# Altium integrated library Linear Technology Power Management LDO Linear Regulators.IntLib: 2339 symbols (part 28 of 131)
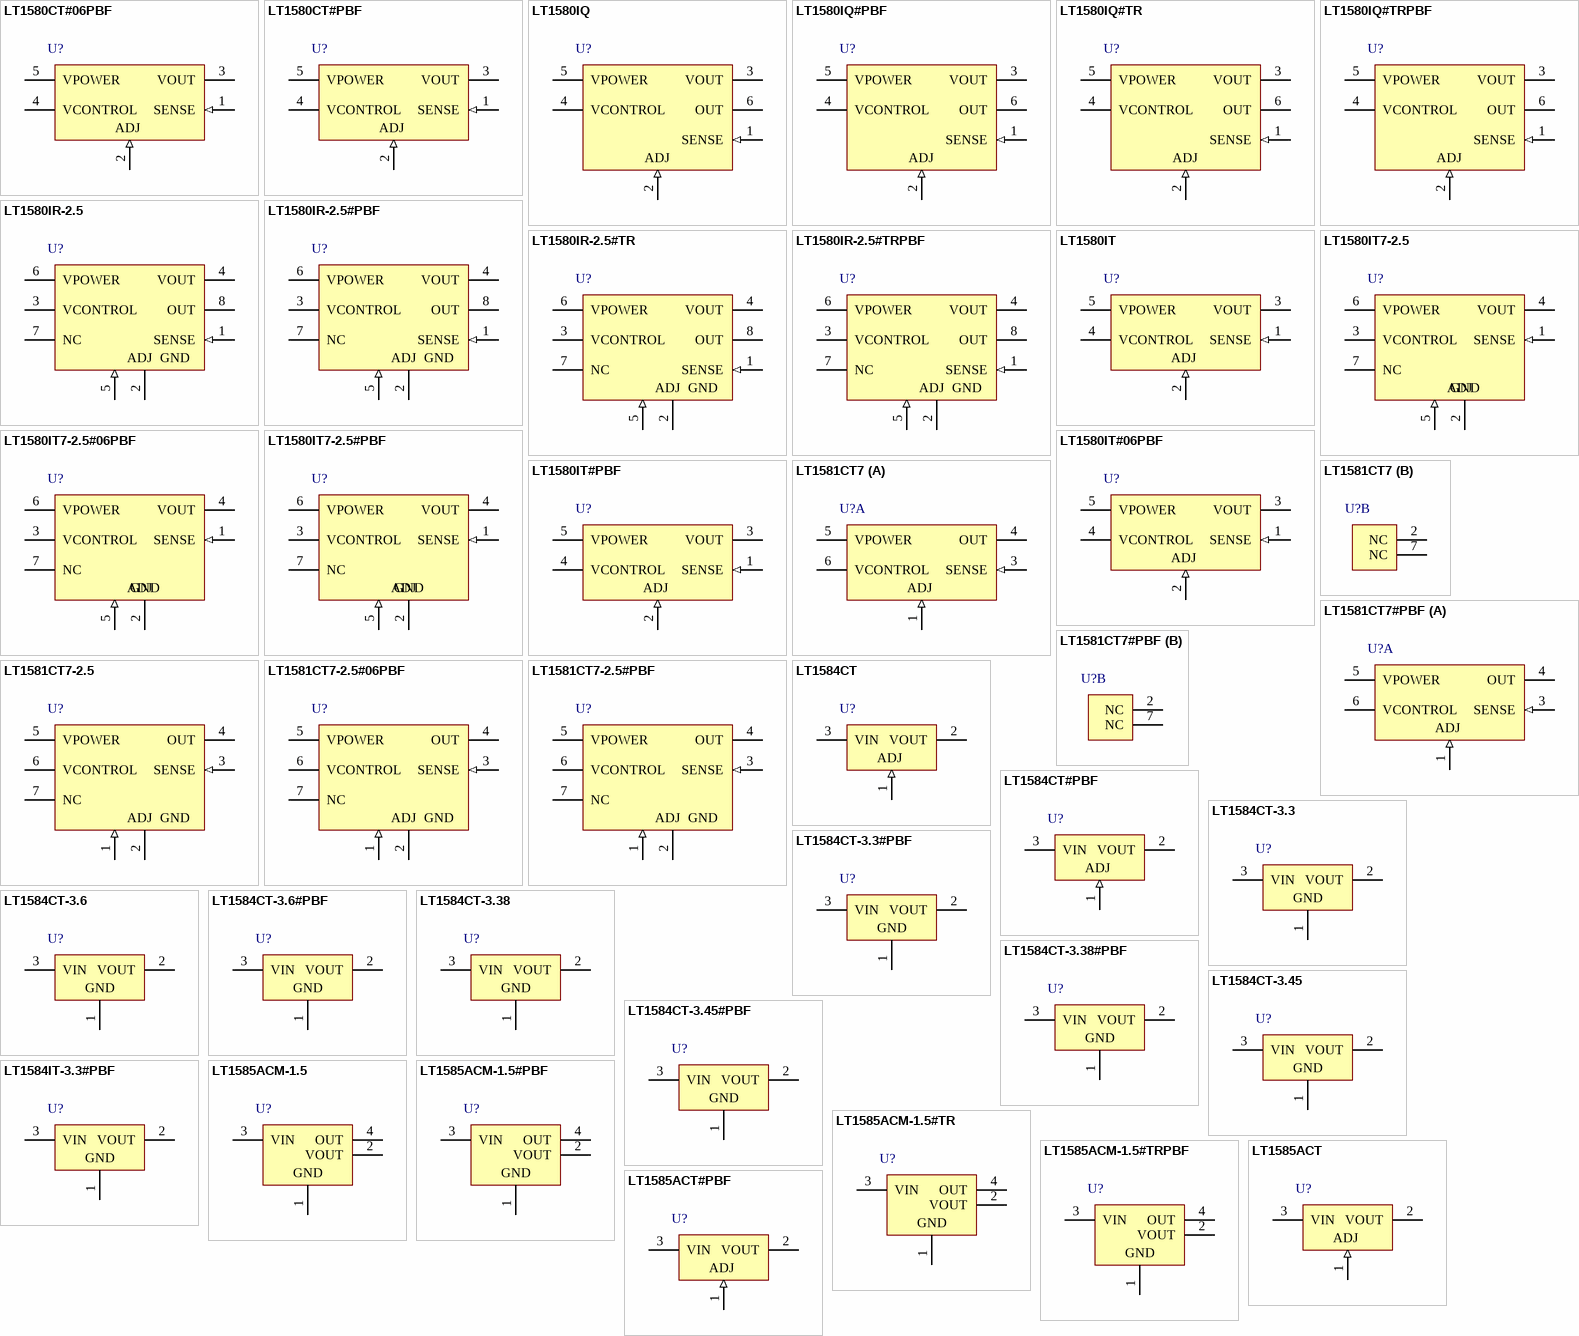
[diagram p96: symbols LT1580CT#06PBF to LT1585ACT#PBF]

## LT1584CT-3.6
designator U?
7 A Low Dropout Fast Response Positive Regulator, 2.5 to 7 V Vin, 3.6 V Vout, 3-pin FM (T-3), 0 to 150 degC; Manufacturer: Linear Technology; PartNumber: LT1584CT-3.6; Discrete Pass Element: no; Dropout Voltage(V): 1.25; Iout(mA): 7000; Isupply(mA): 8; Number of Outputs: 1; Output Voltage: 3.6 V; Vin Max(V): 7; Vin Min(V): 2.5; DatasheetVersion: Rev. A; PackageVersion: Jun-10; PackageReference: T-3; PackageDescription: 3-Pin Plastic TO-220, Body 10.2235 x 4.3815 mm, Pitch 2.54 mm; Supplier 1: Digi-Key; Supplier Part Number 1: LT1584CT-3.6-ND; RoHS: FALSE; Mounting Technology: Through Hole; ComponentLink1Description: Manufacturer URL; ComponentLink1URL: http://www.linear.com/; ComponentLink2Description: Datasheet; ComponentLink2URL: http://cds.linear.com/docs/en/datasheet/158457a.pdf; ComponentLink3Description: Package Specification; ComponentLink3URL: http://cds.linear.com/docs/en/packaging/TO-220_3_05-08-1420.pdf
footprint LT-T-3 (T, 3-Leads, Body 10.55x4.6mm, Pitch 2.54mm)
pins: 1 GND (power), 2 VOUT (power), 3 VIN (power)

## LT1584CT-3.6#PBF
designator U?
7 A Low Dropout Fast Response Positive Regulator, 2.5 to 7 V Vin, 3.6 V Vout, 3-pin FM (T-3), 0 to 150 degC, Pb-Free; Manufacturer: Linear Technology; PartNumber: LT1584CT-3.6#PBF; Discrete Pass Element: no; Dropout Voltage(V): 1.25; Iout(mA): 7000; Isupply(mA): 8; Number of Outputs: 1; Output Voltage: 3.6 V; Vin Max(V): 7; Vin Min(V): 2.5; DatasheetVersion: Rev. A; PackageVersion: Jun-10; PackageReference: T-3; PackageDescription: 3-Pin Plastic TO-220, Body 10.2235 x 4.3815 mm, Pitch 2.54 mm; Supplier 1: Digi-Key; Supplier Part Number 1: LT1584CT-3.6#PBF-ND; RoHS: TRUE; Mounting Technology: Through Hole; ComponentLink1Description: Manufacturer URL; ComponentLink1URL: http://www.linear.com/; ComponentLink2Description: Datasheet; ComponentLink2URL: http://cds.linear.com/docs/en/datasheet/158457a.pdf; ComponentLink3Description: Package Specification; ComponentLink3URL: http://cds.linear.com/docs/en/packaging/TO-220_3_05-08-1420.pdf
footprint LT-T-3 (T, 3-Leads, Body 10.55x4.6mm, Pitch 2.54mm)
pins: 1 GND (power), 2 VOUT (power), 3 VIN (power)

## LT1584CT-3.38
designator U?
7 A Low Dropout Fast Response Positive Regulator, 2.5 to 7 V Vin, 3.38 V Vout, 3-pin FM (T-3), 0 to 150 degC; Manufacturer: Linear Technology; PartNumber: LT1584CT-3.38; Discrete Pass Element: no; Dropout Voltage(V): 1.25; Iout(mA): 7000; Isupply(mA): 8; Number of Outputs: 1; Output Voltage: 3.38 V; Vin Max(V): 7; Vin Min(V): 2.5; DatasheetVersion: Rev. A; PackageVersion: Jun-10; PackageReference: T-3; PackageDescription: 3-Pin Plastic TO-220, Body 10.2235 x 4.3815 mm, Pitch 2.54 mm; Supplier 1: Digi-Key; Supplier Part Number 1: LT1584CT-3.38-ND; RoHS: FALSE; Mounting Technology: Through Hole; ComponentLink1Description: Manufacturer URL; ComponentLink1URL: http://www.linear.com/; ComponentLink2Description: Datasheet; ComponentLink2URL: http://cds.linear.com/docs/en/datasheet/158457a.pdf; ComponentLink3Description: Package Specification; ComponentLink3URL: http://cds.linear.com/docs/en/packaging/TO-220_3_05-08-1420.pdf
footprint LT-T-3 (T, 3-Leads, Body 10.55x4.6mm, Pitch 2.54mm)
pins: 1 GND (power), 2 VOUT (power), 3 VIN (power)

## LT1584CT-3.38#PBF
designator U?
7 A Low Dropout Fast Response Positive Regulator, 2.5 to 7 V Vin, 3.38 V Vout, 3-pin FM (T-3), 0 to 150 degC, Pb-Free; Manufacturer: Linear Technology; PartNumber: LT1584CT-3.38#PBF; Discrete Pass Element: no; Dropout Voltage(V): 1.25; Iout(mA): 7000; Isupply(mA): 8; Number of Outputs: 1; Output Voltage: 3.38 V; Vin Max(V): 7; Vin Min(V): 2.5; DatasheetVersion: Rev. A; PackageVersion: Jun-10; PackageReference: T-3; PackageDescription: 3-Pin Plastic TO-220, Body 10.2235 x 4.3815 mm, Pitch 2.54 mm; Supplier 1: Digi-Key; Supplier Part Number 1: LT1584CT-3.38#PBF-ND; RoHS: TRUE; Mounting Technology: Through Hole; ComponentLink1Description: Manufacturer URL; ComponentLink1URL: http://www.linear.com/; ComponentLink2Description: Datasheet; ComponentLink2URL: http://cds.linear.com/docs/en/datasheet/158457a.pdf; ComponentLink3Description: Package Specification; ComponentLink3URL: http://cds.linear.com/docs/en/packaging/TO-220_3_05-08-1420.pdf
footprint LT-T-3 (T, 3-Leads, Body 10.55x4.6mm, Pitch 2.54mm)
pins: 1 GND (power), 2 VOUT (power), 3 VIN (power)

## LT1584CT-3.45
designator U?
7 A Low Dropout Fast Response Positive Regulator, 2.5 to 7 V Vin, 3.45 V Vout, 3-pin FM (T-3), 0 to 150 degC; Manufacturer: Linear Technology; PartNumber: LT1584CT-3.45; Discrete Pass Element: no; Dropout Voltage(V): 1.25; Iout(mA): 7000; Isupply(mA): 8; Number of Outputs: 1; Output Voltage: 3.45 V; Vin Max(V): 7; Vin Min(V): 2.5; DatasheetVersion: Rev. A; PackageVersion: Jun-10; PackageReference: T-3; PackageDescription: 3-Pin Plastic TO-220, Body 10.2235 x 4.3815 mm, Pitch 2.54 mm; Supplier 1: Digi-Key; Supplier Part Number 1: LT1584CT-3.45-ND; RoHS: FALSE; Mounting Technology: Through Hole; ComponentLink1Description: Manufacturer URL; ComponentLink1URL: http://www.linear.com/; ComponentLink2Description: Datasheet; ComponentLink2URL: http://cds.linear.com/docs/en/datasheet/158457a.pdf; ComponentLink3Description: Package Specification; ComponentLink3URL: http://cds.linear.com/docs/en/packaging/TO-220_3_05-08-1420.pdf
footprint LT-T-3 (T, 3-Leads, Body 10.55x4.6mm, Pitch 2.54mm)
pins: 1 GND (power), 2 VOUT (power), 3 VIN (power)

## LT1584CT-3.45#PBF
designator U?
7 A Low Dropout Fast Response Positive Regulator, 2.5 to 7 V Vin, 3.45 V Vout, 3-pin FM (T-3), 0 to 150 degC, Pb-Free; Manufacturer: Linear Technology; PartNumber: LT1584CT-3.45#PBF; Discrete Pass Element: no; Dropout Voltage(V): 1.25; Iout(mA): 7000; Isupply(mA): 8; Number of Outputs: 1; Output Voltage: 3.45 V; Vin Max(V): 7; Vin Min(V): 2.5; DatasheetVersion: Rev. A; PackageVersion: Jun-10; PackageReference: T-3; PackageDescription: 3-Pin Plastic TO-220, Body 10.2235 x 4.3815 mm, Pitch 2.54 mm; Supplier 1: Digi-Key; Supplier Part Number 1: LT1584CT-3.45#PBF-ND; RoHS: TRUE; Mounting Technology: Through Hole; ComponentLink1Description: Manufacturer URL; ComponentLink1URL: http://www.linear.com/; ComponentLink2Description: Datasheet; ComponentLink2URL: http://cds.linear.com/docs/en/datasheet/158457a.pdf; ComponentLink3Description: Package Specification; ComponentLink3URL: http://cds.linear.com/docs/en/packaging/TO-220_3_05-08-1420.pdf
footprint LT-T-3 (T, 3-Leads, Body 10.55x4.6mm, Pitch 2.54mm)
pins: 1 GND (power), 2 VOUT (power), 3 VIN (power)

## LT1584IT-3.3#PBF
designator U?
7 A Low Dropout Fast Response Positive Regulator, 2.5 to 7 V Vin, 3.3 V Vout, 3-pin FM (T-3), -40 to 150 degC, Pb-Free; Manufacturer: Linear Technology; PartNumber: LT1584IT-3.3#PBF; Discrete Pass Element: no; Dropout Voltage(V): 1.25; Iout(mA): 7000; Isupply(mA): 8; Number of Outputs: 1; Output Voltage: 3.3 V; Vin Max(V): 7; Vin Min(V): 2.5; DatasheetVersion: Rev. A; PackageVersion: Jun-10; PackageReference: T-3; PackageDescription: 3-Pin Plastic TO-220, Body 10.2235 x 4.3815 mm, Pitch 2.54 mm; Supplier 1: Digi-Key; Supplier Part Number 1: LT1584IT-3.3#PBF-ND; Supplier 2: Newark; Supplier Part Number 2: 51P4627; RoHS: TRUE; Mounting Technology: Through Hole; ComponentLink1Description: Manufacturer URL; ComponentLink1URL: http://www.linear.com/; ComponentLink2Description: Datasheet; ComponentLink2URL: http://cds.linear.com/docs/en/datasheet/158457a.pdf; ComponentLink3Description: Package Specification; ComponentLink3URL: http://cds.linear.com/docs/en/packaging/TO-220_3_05-08-1420.pdf
footprint LT-T-3 (T, 3-Leads, Body 10.55x4.6mm, Pitch 2.54mm)
pins: 1 GND (power), 2 VOUT (power), 3 VIN (power)

## LT1585ACM-1.5
designator U?
5 A Low Dropout Fast Response Positive Regulator, 2.5 to 7 V Vin, 1.5 V Vout, 3-pin DPAK (M-3), 0 to 150 degC; Manufacturer: Linear Technology; PartNumber: LT1585ACM-1.5; Discrete Pass Element: no; Dropout Voltage(V): 1.2; Iout(mA): 5000; Isupply(mA): 8; Number of Outputs: 1; Output Voltage: 1.5 V; Vin Max(V): 7; Vin Min(V): 2.5; DatasheetVersion: Rev. A; PackageVersion: Rev. F, 05/2012; PackageReference: M-3; PackageDescription: 3-Pin Plastic DD Pak, Body 10.2235 x 8.89 mm, Pitch 2.54 mm; Supplier 1: Digi-Key; Supplier Part Number 1: LT1585ACM-1.5-ND; RoHS: FALSE; Mounting Technology: Surface Mount; ComponentLink1Description: Manufacturer URL; ComponentLink1URL: http://www.linear.com/; ComponentLink2Description: Datasheet; ComponentLink2URL: http://cds.linear.com/docs/en/datasheet/158515fa.pdf; ComponentLink3Description: Package Specification; ComponentLink3URL: http://cds.linear.com/docs/en/packaging/05081460_F_M.pdf
footprint LT-M-3_N (DPAK, 3-Leads, Body 10.55x9.4mm, Pitch 2.54mm, IPC Medium Density)
footprint LT-M-3_L (DPAK, 3-Leads, Body 10.55x9.4mm, Pitch 2.54mm, IPC High Density)
footprint LT-M-3_M (DPAK, 3-Leads, Body 10.55x9.4mm, Pitch 2.54mm, IPC Low Density)
pins: 1 GND (power), 2 VOUT (power), 3 VIN (power), 4 OUT (power)

## LT1585ACM-1.5#PBF
designator U?
5 A Low Dropout Fast Response Positive Regulator, 2.5 to 7 V Vin, 1.5 V Vout, 3-pin DPAK (M-3), 0 to 150 degC, Pb-Free; Manufacturer: Linear Technology; PartNumber: LT1585ACM-1.5#PBF; Discrete Pass Element: no; Dropout Voltage(V): 1.2; Iout(mA): 5000; Isupply(mA): 8; Number of Outputs: 1; Output Voltage: 1.5 V; Vin Max(V): 7; Vin Min(V): 2.5; DatasheetVersion: Rev. A; PackageVersion: Rev. F, 05/2012; PackageReference: M-3; PackageDescription: 3-Pin Plastic DD Pak, Body 10.2235 x 8.89 mm, Pitch 2.54 mm; Supplier 1: Digi-Key; Supplier Part Number 1: LT1585ACM-1.5#PBF-ND; Supplier 2: Newark; Supplier Part Number 2: 57M5100; RoHS: TRUE; Mounting Technology: Surface Mount; ComponentLink1Description: Manufacturer URL; ComponentLink1URL: http://www.linear.com/; ComponentLink2Description: Datasheet; ComponentLink2URL: http://cds.linear.com/docs/en/datasheet/158515fa.pdf; ComponentLink3Description: Package Specification; ComponentLink3URL: http://cds.linear.com/docs/en/packaging/05081460_F_M.pdf
footprint LT-M-3_N (DPAK, 3-Leads, Body 10.55x9.4mm, Pitch 2.54mm, IPC Medium Density)
footprint LT-M-3_L (DPAK, 3-Leads, Body 10.55x9.4mm, Pitch 2.54mm, IPC High Density)
footprint LT-M-3_M (DPAK, 3-Leads, Body 10.55x9.4mm, Pitch 2.54mm, IPC Low Density)
pins: 1 GND (power), 2 VOUT (power), 3 VIN (power), 4 OUT (power)

## LT1585ACM-1.5#TR
designator U?
5 A Low Dropout Fast Response Positive Regulator, 2.5 to 7 V Vin, 1.5 V Vout, 3-pin DPAK (M-3), 0 to 150 degC, Tape and Reel; Manufacturer: Linear Technology; PartNumber: LT1585ACM-1.5#TR; Discrete Pass Element: no; Dropout Voltage(V): 1.2; Iout(mA): 5000; Isupply(mA): 8; Number of Outputs: 1; Output Voltage: 1.5 V; Vin Max(V): 7; Vin Min(V): 2.5; DatasheetVersion: Rev. A; PackageVersion: Rev. F, 05/2012; PackageReference: M-3; PackageDescription: 3-Pin Plastic DD Pak, Body 10.2235 x 8.89 mm, Pitch 2.54 mm; Supplier 1: Digi-Key; Supplier Part Number 1: LT1585ACM-1.5#TR-ND; Packing: Tape and Reel; RoHS: FALSE; Mounting Technology: Surface Mount; ComponentLink1Description: Manufacturer URL; ComponentLink1URL: http://www.linear.com/; ComponentLink2Description: Datasheet; ComponentLink2URL: http://cds.linear.com/docs/en/datasheet/158515fa.pdf; ComponentLink3Description: Package Specification; ComponentLink3URL: http://cds.linear.com/docs/en/packaging/05081460_F_M.pdf
footprint LT-M-3_N (DPAK, 3-Leads, Body 10.55x9.4mm, Pitch 2.54mm, IPC Medium Density)
footprint LT-M-3_L (DPAK, 3-Leads, Body 10.55x9.4mm, Pitch 2.54mm, IPC High Density)
footprint LT-M-3_M (DPAK, 3-Leads, Body 10.55x9.4mm, Pitch 2.54mm, IPC Low Density)
pins: 1 GND (power), 2 VOUT (power), 3 VIN (power), 4 OUT (power)

## LT1585ACM-1.5#TRPBF
designator U?
5 A Low Dropout Fast Response Positive Regulator, 2.5 to 7 V Vin, 1.5 V Vout, 3-pin DPAK (M-3), 0 to 150 degC, Pb-Free, Tape and Reel; Manufacturer: Linear Technology; PartNumber: LT1585ACM-1.5#TRPBF; Discrete Pass Element: no; Dropout Voltage(V): 1.2; Iout(mA): 5000; Isupply(mA): 8; Number of Outputs: 1; Output Voltage: 1.5 V; Vin Max(V): 7; Vin Min(V): 2.5; DatasheetVersion: Rev. A; PackageVersion: Rev. F, 05/2012; PackageReference: M-3; PackageDescription: 3-Pin Plastic DD Pak, Body 10.2235 x 8.89 mm, Pitch 2.54 mm; Supplier 1: Digi-Key; Supplier Part Number 1: LT1585ACM-1.5#TRPBF-ND; Supplier 2: Newark; Supplier Part Number 2: 57M5102; Packing: Tape and Reel; RoHS: TRUE; Mounting Technology: Surface Mount; ComponentLink1Description: Manufacturer URL; ComponentLink1URL: http://www.linear.com/; ComponentLink2Description: Datasheet; ComponentLink2URL: http://cds.linear.com/docs/en/datasheet/158515fa.pdf; ComponentLink3Description: Package Specification; ComponentLink3URL: http://cds.linear.com/docs/en/packaging/05081460_F_M.pdf
footprint LT-M-3_N (DPAK, 3-Leads, Body 10.55x9.4mm, Pitch 2.54mm, IPC Medium Density)
footprint LT-M-3_L (DPAK, 3-Leads, Body 10.55x9.4mm, Pitch 2.54mm, IPC High Density)
footprint LT-M-3_M (DPAK, 3-Leads, Body 10.55x9.4mm, Pitch 2.54mm, IPC Low Density)
pins: 1 GND (power), 2 VOUT (power), 3 VIN (power), 4 OUT (power)

## LT1585ACT
designator U?
5 A Low Dropout Fast Response Positive Regulator, 2.45 to 7 V Vin, Adjustable Vout, 3-pin FM (T-3), 0 to 150 degC; Manufacturer: Linear Technology; PartNumber: LT1585ACT; Discrete Pass Element: no; Dropout Voltage(V): 1.2; Iout(mA): 5000; Isupply(mA): 8; Number of Outputs: 1; Output Voltage: Adj; Vin Max(V): 7; Vin Min(V): 2.45; Vout Max(V): 5.5; Vout Min(V): 1.25; DatasheetVersion: Rev. A; PackageVersion: Jun-10; PackageReference: T-3; PackageDescription: 3-Pin Plastic TO-220, Body 10.2235 x 4.3815 mm, Pitch 2.54 mm; Supplier 1: Digi-Key; Supplier Part Number 1: LT1585ACT-ND; RoHS: FALSE; Mounting Technology: Through Hole; ComponentLink1Description: Manufacturer URL; ComponentLink1URL: http://www.linear.com/; ComponentLink2Description: Datasheet; ComponentLink2URL: http://cds.linear.com/docs/en/datasheet/1585afa.pdf; ComponentLink3Description: Package Specification; ComponentLink3URL: http://cds.linear.com/docs/en/packaging/TO-220_3_05-08-1420.pdf
footprint LT-T-3 (T, 3-Leads, Body 10.55x4.6mm, Pitch 2.54mm)
pins: 1 ADJ (in), 2 VOUT (power), 3 VIN (power)

## LT1585ACT#PBF
designator U?
5 A Low Dropout Fast Response Positive Regulator, 2.45 to 7 V Vin, Adjustable Vout, 3-pin FM (T-3), 0 to 150 degC, Pb-Free; Manufacturer: Linear Technology; PartNumber: LT1585ACT#PBF; Discrete Pass Element: no; Dropout Voltage(V): 1.2; Iout(mA): 5000; Isupply(mA): 8; Number of Outputs: 1; Output Voltage: Adj; Vin Max(V): 7; Vin Min(V): 2.45; Vout Max(V): 5.5; Vout Min(V): 1.25; DatasheetVersion: Rev. A; PackageVersion: Jun-10; PackageReference: T-3; PackageDescription: 3-Pin Plastic TO-220, Body 10.2235 x 4.3815 mm, Pitch 2.54 mm; Supplier 1: Digi-Key; Supplier Part Number 1: LT1585ACT#PBF-ND; Supplier 2: Newark; Supplier Part Number 2: 57M5108; RoHS: TRUE; Mounting Technology: Through Hole; ComponentLink1Description: Manufacturer URL; ComponentLink1URL: http://www.linear.com/; ComponentLink2Description: Datasheet; ComponentLink2URL: http://cds.linear.com/docs/en/datasheet/1585afa.pdf; ComponentLink3Description: Package Specification; ComponentLink3URL: http://cds.linear.com/docs/en/packaging/TO-220_3_05-08-1420.pdf
footprint LT-T-3 (T, 3-Leads, Body 10.55x4.6mm, Pitch 2.54mm)
pins: 1 ADJ (in), 2 VOUT (power), 3 VIN (power)

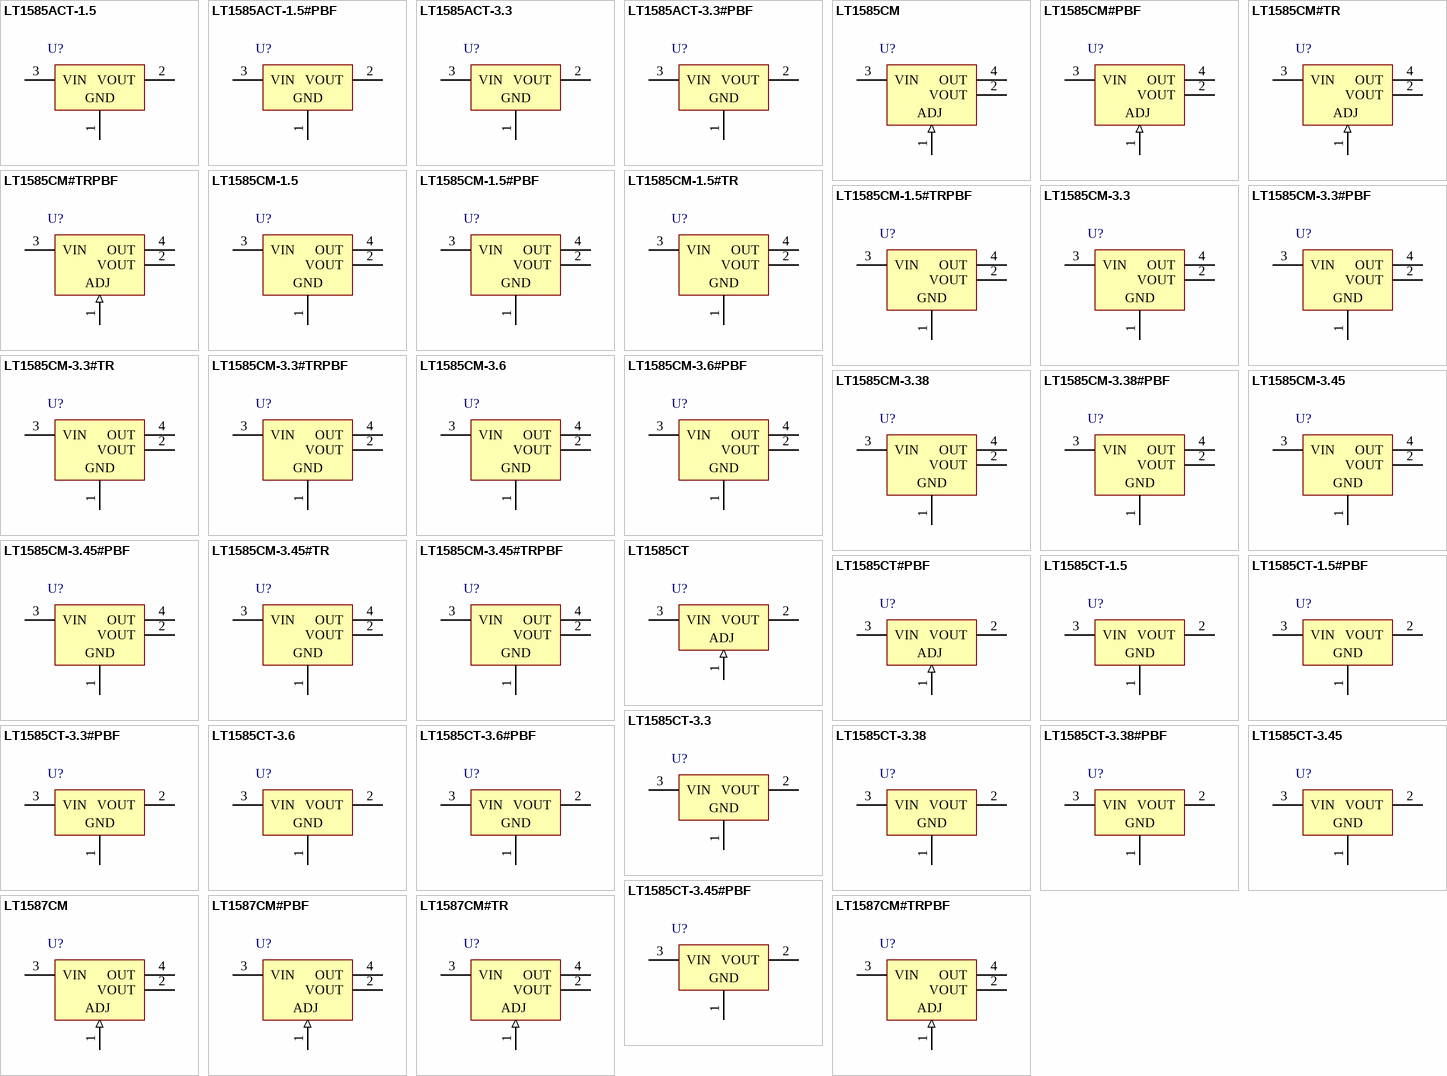
[diagram p19: symbols LT1585ACT-1.5 to LT1587CM#TRPBF]

## LT1585ACT-1.5
designator U?
5 A Low Dropout Fast Response Positive Regulator, 2.5 to 7 V Vin, 1.5 V Vout, 3-pin FM (T-3), 0 to 150 degC; Manufacturer: Linear Technology; PartNumber: LT1585ACT-1.5; Discrete Pass Element: no; Dropout Voltage(V): 1.2; Iout(mA): 5000; Isupply(mA): 8; Number of Outputs: 1; Output Voltage: 1.5 V; Vin Max(V): 7; Vin Min(V): 2.5; DatasheetVersion: Rev. A; PackageVersion: Jun-10; PackageReference: T-3; PackageDescription: 3-Pin Plastic TO-220, Body 10.2235 x 4.3815 mm, Pitch 2.54 mm; Supplier 1: Digi-Key; Supplier Part Number 1: LT1585ACT-1.5-ND; Supplier 2: Newark; Supplier Part Number 2: 57M5104; RoHS: FALSE; Mounting Technology: Through Hole; ComponentLink1Description: Manufacturer URL; ComponentLink1URL: http://www.linear.com/; ComponentLink2Description: Datasheet; ComponentLink2URL: http://cds.linear.com/docs/en/datasheet/158515fa.pdf; ComponentLink3Description: Package Specification; ComponentLink3URL: http://cds.linear.com/docs/en/packaging/TO-220_3_05-08-1420.pdf
footprint LT-T-3 (T, 3-Leads, Body 10.55x4.6mm, Pitch 2.54mm)
pins: 1 GND (power), 2 VOUT (power), 3 VIN (power)

## LT1585ACT-1.5#PBF
designator U?
5 A Low Dropout Fast Response Positive Regulator, 2.5 to 7 V Vin, 1.5 V Vout, 3-pin FM (T-3), 0 to 150 degC, Pb-Free; Manufacturer: Linear Technology; PartNumber: LT1585ACT-1.5#PBF; Discrete Pass Element: no; Dropout Voltage(V): 1.2; Iout(mA): 5000; Isupply(mA): 8; Number of Outputs: 1; Output Voltage: 1.5 V; Vin Max(V): 7; Vin Min(V): 2.5; DatasheetVersion: Rev. A; PackageVersion: Jun-10; PackageReference: T-3; PackageDescription: 3-Pin Plastic TO-220, Body 10.2235 x 4.3815 mm, Pitch 2.54 mm; Supplier 1: Digi-Key; Supplier Part Number 1: LT1585ACT-1.5#PBF-ND; RoHS: TRUE; Mounting Technology: Through Hole; ComponentLink1Description: Manufacturer URL; ComponentLink1URL: http://www.linear.com/; ComponentLink2Description: Datasheet; ComponentLink2URL: http://cds.linear.com/docs/en/datasheet/158515fa.pdf; ComponentLink3Description: Package Specification; ComponentLink3URL: http://cds.linear.com/docs/en/packaging/TO-220_3_05-08-1420.pdf
footprint LT-T-3 (T, 3-Leads, Body 10.55x4.6mm, Pitch 2.54mm)
pins: 1 GND (power), 2 VOUT (power), 3 VIN (power)

## LT1585ACT-3.3
designator U?
5 A Low Dropout Fast Response Positive Regulator, 4.3 to 7 V Vin, 3.3 V Vout, 3-pin FM (T-3), 0 to 150 degC; Manufacturer: Linear Technology; PartNumber: LT1585ACT-3.3; Discrete Pass Element: no; Dropout Voltage(V): 1.2; Iout(mA): 5000; Isupply(mA): 8; Number of Outputs: 1; Output Voltage: 3.3 V; Vin Max(V): 7; Vin Min(V): 4.3; DatasheetVersion: Rev. A; PackageVersion: Jun-10; PackageReference: T-3; PackageDescription: 3-Pin Plastic TO-220, Body 10.2235 x 4.3815 mm, Pitch 2.54 mm; Supplier 1: Digi-Key; Supplier Part Number 1: LT1585ACT-3.3-ND; RoHS: FALSE; Mounting Technology: Through Hole; ComponentLink1Description: Manufacturer URL; ComponentLink1URL: http://www.linear.com/; ComponentLink2Description: Datasheet; ComponentLink2URL: http://cds.linear.com/docs/en/datasheet/1585afa.pdf; ComponentLink3Description: Package Specification; ComponentLink3URL: http://cds.linear.com/docs/en/packaging/TO-220_3_05-08-1420.pdf
footprint LT-T-3 (T, 3-Leads, Body 10.55x4.6mm, Pitch 2.54mm)
pins: 1 GND (power), 2 VOUT (power), 3 VIN (power)

## LT1585ACT-3.3#PBF
designator U?
5 A Low Dropout Fast Response Positive Regulator, 4.3 to 7 V Vin, 3.3 V Vout, 3-pin FM (T-3), 0 to 150 degC, Pb-Free; Manufacturer: Linear Technology; PartNumber: LT1585ACT-3.3#PBF; Discrete Pass Element: no; Dropout Voltage(V): 1.2; Iout(mA): 5000; Isupply(mA): 8; Number of Outputs: 1; Output Voltage: 3.3 V; Vin Max(V): 7; Vin Min(V): 4.3; DatasheetVersion: Rev. A; PackageVersion: Jun-10; PackageReference: T-3; PackageDescription: 3-Pin Plastic TO-220, Body 10.2235 x 4.3815 mm, Pitch 2.54 mm; Supplier 1: Digi-Key; Supplier Part Number 1: LT1585ACT-3.3#PBF-ND; Supplier 2: Farnell; Supplier Part Number 2: 2252745; Supplier 3: Newark; Supplier Part Number 3: 57M5107; RoHS: TRUE; Mounting Technology: Through Hole; ComponentLink1Description: Manufacturer URL; ComponentLink1URL: http://www.linear.com/; ComponentLink2Description: Datasheet; ComponentLink2URL: http://cds.linear.com/docs/en/datasheet/1585afa.pdf; ComponentLink3Description: Package Specification; ComponentLink3URL: http://cds.linear.com/docs/en/packaging/TO-220_3_05-08-1420.pdf
footprint LT-T-3 (T, 3-Leads, Body 10.55x4.6mm, Pitch 2.54mm)
pins: 1 GND (power), 2 VOUT (power), 3 VIN (power)

## LT1585CM
designator U?
4.6 A Low Dropout Fast Response Positive Regulator, 2.35 to 7 V Vin, Adjustable Vout, 3-pin DPAK (M-3), 0 to 150 degC; Manufacturer: Linear Technology; PartNumber: LT1585CM; Discrete Pass Element: no; Dropout Voltage(V): 1.2; Iout(mA): 4600; Isupply(mA): 8; Number of Outputs: 1; Output Voltage: Adj; Vin Max(V): 7; Vin Min(V): 2.35; Vout Max(V): 5.5; Vout Min(V): 1.25; DatasheetVersion: Rev. A; PackageVersion: Rev. F, 05/2012; PackageReference: M-3; PackageDescription: 3-Pin Plastic DD Pak, Body 10.2235 x 8.89 mm, Pitch 2.54 mm; Supplier 1: Digi-Key; Supplier Part Number 1: LT1585CM-ND; Supplier 2: Newark; Supplier Part Number 2: 57M5109; RoHS: FALSE; Mounting Technology: Surface Mount; ComponentLink1Description: Manufacturer URL; ComponentLink1URL: http://www.linear.com/; ComponentLink2Description: Datasheet; ComponentLink2URL: http://cds.linear.com/docs/en/datasheet/158457a.pdf; ComponentLink3Description: Package Specification; ComponentLink3URL: http://cds.linear.com/docs/en/packaging/05081460_F_M.pdf
footprint LT-M-3_N (DPAK, 3-Leads, Body 10.55x9.4mm, Pitch 2.54mm, IPC Medium Density)
footprint LT-M-3_L (DPAK, 3-Leads, Body 10.55x9.4mm, Pitch 2.54mm, IPC High Density)
footprint LT-M-3_M (DPAK, 3-Leads, Body 10.55x9.4mm, Pitch 2.54mm, IPC Low Density)
pins: 1 ADJ (in), 2 VOUT (power), 3 VIN (power), 4 OUT (power)

## LT1585CM#PBF
designator U?
4.6 A Low Dropout Fast Response Positive Regulator, 2.35 to 7 V Vin, Adjustable Vout, 3-pin DPAK (M-3), 0 to 150 degC, Pb-Free; Manufacturer: Linear Technology; PartNumber: LT1585CM#PBF; Discrete Pass Element: no; Dropout Voltage(V): 1.2; Iout(mA): 4600; Isupply(mA): 8; Number of Outputs: 1; Output Voltage: Adj; Vin Max(V): 7; Vin Min(V): 2.35; Vout Max(V): 5.5; Vout Min(V): 1.25; DatasheetVersion: Rev. A; PackageVersion: Rev. F, 05/2012; PackageReference: M-3; PackageDescription: 3-Pin Plastic DD Pak, Body 10.2235 x 8.89 mm, Pitch 2.54 mm; Supplier 1: Digi-Key; Supplier Part Number 1: LT1585CM#PBF-ND; Supplier 2: Farnell; Supplier Part Number 2: 9560637; Supplier 3: Newark; Supplier Part Number 3: 57M5126; RoHS: TRUE; Mounting Technology: Surface Mount; ComponentLink1Description: Manufacturer URL; ComponentLink1URL: http://www.linear.com/; ComponentLink2Description: Datasheet; ComponentLink2URL: http://cds.linear.com/docs/en/datasheet/158457a.pdf; ComponentLink3Description: Package Specification; ComponentLink3URL: http://cds.linear.com/docs/en/packaging/05081460_F_M.pdf
footprint LT-M-3_N (DPAK, 3-Leads, Body 10.55x9.4mm, Pitch 2.54mm, IPC Medium Density)
footprint LT-M-3_L (DPAK, 3-Leads, Body 10.55x9.4mm, Pitch 2.54mm, IPC High Density)
footprint LT-M-3_M (DPAK, 3-Leads, Body 10.55x9.4mm, Pitch 2.54mm, IPC Low Density)
pins: 1 ADJ (in), 2 VOUT (power), 3 VIN (power), 4 OUT (power)

## LT1585CM#TR
designator U?
4.6 A Low Dropout Fast Response Positive Regulator, 2.35 to 7 V Vin, Adjustable Vout, 3-pin DPAK (M-3), 0 to 150 degC, Tape and Reel; Manufacturer: Linear Technology; PartNumber: LT1585CM#TR; Discrete Pass Element: no; Dropout Voltage(V): 1.2; Iout(mA): 4600; Isupply(mA): 8; Number of Outputs: 1; Output Voltage: Adj; Vin Max(V): 7; Vin Min(V): 2.35; Vout Max(V): 5.5; Vout Min(V): 1.25; DatasheetVersion: Rev. A; PackageVersion: Rev. F, 05/2012; PackageReference: M-3; PackageDescription: 3-Pin Plastic DD Pak, Body 10.2235 x 8.89 mm, Pitch 2.54 mm; Supplier 1: Digi-Key; Supplier Part Number 1: LT1585CM#TR-ND; Supplier 2: Newark; Supplier Part Number 2: 57M5127; Packing: Tape and Reel; RoHS: FALSE; Mounting Technology: Surface Mount; ComponentLink1Description: Manufacturer URL; ComponentLink1URL: http://www.linear.com/; ComponentLink2Description: Datasheet; ComponentLink2URL: http://cds.linear.com/docs/en/datasheet/158457a.pdf; ComponentLink3Description: Package Specification; ComponentLink3URL: http://cds.linear.com/docs/en/packaging/05081460_F_M.pdf
footprint LT-M-3_N (DPAK, 3-Leads, Body 10.55x9.4mm, Pitch 2.54mm, IPC Medium Density)
footprint LT-M-3_L (DPAK, 3-Leads, Body 10.55x9.4mm, Pitch 2.54mm, IPC High Density)
footprint LT-M-3_M (DPAK, 3-Leads, Body 10.55x9.4mm, Pitch 2.54mm, IPC Low Density)
pins: 1 ADJ (in), 2 VOUT (power), 3 VIN (power), 4 OUT (power)

## LT1585CM#TRPBF
designator U?
4.6 A Low Dropout Fast Response Positive Regulator, 2.35 to 7 V Vin, Adjustable Vout, 3-pin DPAK (M-3), 0 to 150 degC, Pb-Free, Tape and Reel; Manufacturer: Linear Technology; PartNumber: LT1585CM#TRPBF; Discrete Pass Element: no; Dropout Voltage(V): 1.2; Iout(mA): 4600; Isupply(mA): 8; Number of Outputs: 1; Output Voltage: Adj; Vin Max(V): 7; Vin Min(V): 2.35; Vout Max(V): 5.5; Vout Min(V): 1.25; DatasheetVersion: Rev. A; PackageVersion: Rev. F, 05/2012; PackageReference: M-3; PackageDescription: 3-Pin Plastic DD Pak, Body 10.2235 x 8.89 mm, Pitch 2.54 mm; Supplier 1: Digi-Key; Supplier Part Number 1: LT1585CM#TRPBF-ND; Supplier 2: Newark; Supplier Part Number 2: 57M5128; Packing: Tape and Reel; RoHS: TRUE; Mounting Technology: Surface Mount; ComponentLink1Description: Manufacturer URL; ComponentLink1URL: http://www.linear.com/; ComponentLink2Description: Datasheet; ComponentLink2URL: http://cds.linear.com/docs/en/datasheet/158457a.pdf; ComponentLink3Description: Package Specification; ComponentLink3URL: http://cds.linear.com/docs/en/packaging/05081460_F_M.pdf
footprint LT-M-3_N (DPAK, 3-Leads, Body 10.55x9.4mm, Pitch 2.54mm, IPC Medium Density)
footprint LT-M-3_L (DPAK, 3-Leads, Body 10.55x9.4mm, Pitch 2.54mm, IPC High Density)
footprint LT-M-3_M (DPAK, 3-Leads, Body 10.55x9.4mm, Pitch 2.54mm, IPC Low Density)
pins: 1 ADJ (in), 2 VOUT (power), 3 VIN (power), 4 OUT (power)

## LT1585CM-1.5
designator U?
4.6 A Low Dropout Fast Response Positive Regulator, 2.5 to 7 V Vin, 1.5 V Vout, 3-pin DPAK (M-3), 0 to 150 degC; Manufacturer: Linear Technology; PartNumber: LT1585CM-1.5; Discrete Pass Element: no; Dropout Voltage(V): 1.2; Iout(mA): 4600; Isupply(mA): 8; Number of Outputs: 1; Output Voltage: 1.5 V; Vin Max(V): 7; Vin Min(V): 2.5; DatasheetVersion: Rev. A; PackageVersion: Rev. F, 05/2012; PackageReference: M-3; PackageDescription: 3-Pin Plastic DD Pak, Body 10.2235 x 8.89 mm, Pitch 2.54 mm; Supplier 1: Digi-Key; Supplier Part Number 1: LT1585CM-1.5-ND; Supplier 2: Newark; Supplier Part Number 2: 57M5110; RoHS: FALSE; Mounting Technology: Surface Mount; ComponentLink1Description: Manufacturer URL; ComponentLink1URL: http://www.linear.com/; ComponentLink2Description: Datasheet; ComponentLink2URL: http://cds.linear.com/docs/en/datasheet/158515fa.pdf; ComponentLink3Description: Package Specification; ComponentLink3URL: http://cds.linear.com/docs/en/packaging/05081460_F_M.pdf
footprint LT-M-3_N (DPAK, 3-Leads, Body 10.55x9.4mm, Pitch 2.54mm, IPC Medium Density)
footprint LT-M-3_L (DPAK, 3-Leads, Body 10.55x9.4mm, Pitch 2.54mm, IPC High Density)
footprint LT-M-3_M (DPAK, 3-Leads, Body 10.55x9.4mm, Pitch 2.54mm, IPC Low Density)
pins: 1 GND (power), 2 VOUT (power), 3 VIN (power), 4 OUT (power)

## LT1585CM-1.5#PBF
designator U?
4.6 A Low Dropout Fast Response Positive Regulator, 2.5 to 7 V Vin, 1.5 V Vout, 3-pin DPAK (M-3), 0 to 150 degC, Pb-Free; Manufacturer: Linear Technology; PartNumber: LT1585CM-1.5#PBF; Discrete Pass Element: no; Dropout Voltage(V): 1.2; Iout(mA): 4600; Isupply(mA): 8; Number of Outputs: 1; Output Voltage: 1.5 V; Vin Max(V): 7; Vin Min(V): 2.5; DatasheetVersion: Rev. A; PackageVersion: Rev. F, 05/2012; PackageReference: M-3; PackageDescription: 3-Pin Plastic DD Pak, Body 10.2235 x 8.89 mm, Pitch 2.54 mm; Supplier 1: Digi-Key; Supplier Part Number 1: LT1585CM-1.5#PBF-ND; Supplier 2: Newark; Supplier Part Number 2: 57M5111; RoHS: TRUE; Mounting Technology: Surface Mount; ComponentLink1Description: Manufacturer URL; ComponentLink1URL: http://www.linear.com/; ComponentLink2Description: Datasheet; ComponentLink2URL: http://cds.linear.com/docs/en/datasheet/158515fa.pdf; ComponentLink3Description: Package Specification; ComponentLink3URL: http://cds.linear.com/docs/en/packaging/05081460_F_M.pdf
footprint LT-M-3_N (DPAK, 3-Leads, Body 10.55x9.4mm, Pitch 2.54mm, IPC Medium Density)
footprint LT-M-3_L (DPAK, 3-Leads, Body 10.55x9.4mm, Pitch 2.54mm, IPC High Density)
footprint LT-M-3_M (DPAK, 3-Leads, Body 10.55x9.4mm, Pitch 2.54mm, IPC Low Density)
pins: 1 GND (power), 2 VOUT (power), 3 VIN (power), 4 OUT (power)

## LT1585CM-1.5#TR
designator U?
4.6 A Low Dropout Fast Response Positive Regulator, 2.5 to 7 V Vin, 1.5 V Vout, 3-pin DPAK (M-3), 0 to 150 degC, Tape and Reel; Manufacturer: Linear Technology; PartNumber: LT1585CM-1.5#TR; Discrete Pass Element: no; Dropout Voltage(V): 1.2; Iout(mA): 4600; Isupply(mA): 8; Number of Outputs: 1; Output Voltage: 1.5 V; Vin Max(V): 7; Vin Min(V): 2.5; DatasheetVersion: Rev. A; PackageVersion: Rev. F, 05/2012; PackageReference: M-3; PackageDescription: 3-Pin Plastic DD Pak, Body 10.2235 x 8.89 mm, Pitch 2.54 mm; Supplier 1: Digi-Key; Supplier Part Number 1: LT1585CM-1.5#TR-ND; Packing: Tape and Reel; RoHS: FALSE; Mounting Technology: Surface Mount; ComponentLink1Description: Manufacturer URL; ComponentLink1URL: http://www.linear.com/; ComponentLink2Description: Datasheet; ComponentLink2URL: http://cds.linear.com/docs/en/datasheet/158515fa.pdf; ComponentLink3Description: Package Specification; ComponentLink3URL: http://cds.linear.com/docs/en/packaging/05081460_F_M.pdf
footprint LT-M-3_N (DPAK, 3-Leads, Body 10.55x9.4mm, Pitch 2.54mm, IPC Medium Density)
footprint LT-M-3_L (DPAK, 3-Leads, Body 10.55x9.4mm, Pitch 2.54mm, IPC High Density)
footprint LT-M-3_M (DPAK, 3-Leads, Body 10.55x9.4mm, Pitch 2.54mm, IPC Low Density)
pins: 1 GND (power), 2 VOUT (power), 3 VIN (power), 4 OUT (power)

## LT1585CM-1.5#TRPBF
designator U?
4.6 A Low Dropout Fast Response Positive Regulator, 2.5 to 7 V Vin, 1.5 V Vout, 3-pin DPAK (M-3), 0 to 150 degC, Pb-Free, Tape and Reel; Manufacturer: Linear Technology; PartNumber: LT1585CM-1.5#TRPBF; Discrete Pass Element: no; Dropout Voltage(V): 1.2; Iout(mA): 4600; Isupply(mA): 8; Number of Outputs: 1; Output Voltage: 1.5 V; Vin Max(V): 7; Vin Min(V): 2.5; DatasheetVersion: Rev. A; PackageVersion: Rev. F, 05/2012; PackageReference: M-3; PackageDescription: 3-Pin Plastic DD Pak, Body 10.2235 x 8.89 mm, Pitch 2.54 mm; Supplier 1: Digi-Key; Supplier Part Number 1: LT1585CM-1.5#TRPBF-ND; Packing: Tape and Reel; RoHS: TRUE; Mounting Technology: Surface Mount; ComponentLink1Description: Manufacturer URL; ComponentLink1URL: http://www.linear.com/; ComponentLink2Description: Datasheet; ComponentLink2URL: http://cds.linear.com/docs/en/datasheet/158515fa.pdf; ComponentLink3Description: Package Specification; ComponentLink3URL: http://cds.linear.com/docs/en/packaging/05081460_F_M.pdf
footprint LT-M-3_N (DPAK, 3-Leads, Body 10.55x9.4mm, Pitch 2.54mm, IPC Medium Density)
footprint LT-M-3_L (DPAK, 3-Leads, Body 10.55x9.4mm, Pitch 2.54mm, IPC High Density)
footprint LT-M-3_M (DPAK, 3-Leads, Body 10.55x9.4mm, Pitch 2.54mm, IPC Low Density)
pins: 1 GND (power), 2 VOUT (power), 3 VIN (power), 4 OUT (power)

## LT1585CM-3.3
designator U?
4.6 A Low Dropout Fast Response Positive Regulator, 2.35 to 7 V Vin, 3.3 V Vout, 3-pin DPAK (M-3), 0 to 150 degC; Manufacturer: Linear Technology; PartNumber: LT1585CM-3.3; Discrete Pass Element: no; Dropout Voltage(V): 1.2; Iout(mA): 4600; Isupply(mA): 8; Number of Outputs: 1; Output Voltage: 3.3 V; Vin Max(V): 7; Vin Min(V): 2.35; DatasheetVersion: Rev. A; PackageVersion: Rev. F, 05/2012; PackageReference: M-3; PackageDescription: 3-Pin Plastic DD Pak, Body 10.2235 x 8.89 mm, Pitch 2.54 mm; Supplier 1: Digi-Key; Supplier Part Number 1: LT1585CM-3.3-ND; Supplier 2: Newark; Supplier Part Number 2: 57M5114; RoHS: FALSE; Mounting Technology: Surface Mount; ComponentLink1Description: Manufacturer URL; ComponentLink1URL: http://www.linear.com/; ComponentLink2Description: Datasheet; ComponentLink2URL: http://cds.linear.com/docs/en/datasheet/158457a.pdf; ComponentLink3Description: Package Specification; ComponentLink3URL: http://cds.linear.com/docs/en/packaging/05081460_F_M.pdf
footprint LT-M-3_N (DPAK, 3-Leads, Body 10.55x9.4mm, Pitch 2.54mm, IPC Medium Density)
footprint LT-M-3_L (DPAK, 3-Leads, Body 10.55x9.4mm, Pitch 2.54mm, IPC High Density)
footprint LT-M-3_M (DPAK, 3-Leads, Body 10.55x9.4mm, Pitch 2.54mm, IPC Low Density)
pins: 1 GND (power), 2 VOUT (power), 3 VIN (power), 4 OUT (power)

## LT1585CM-3.3#PBF
designator U?
4.6 A Low Dropout Fast Response Positive Regulator, 2.35 to 7 V Vin, 3.3 V Vout, 3-pin DPAK (M-3), 0 to 150 degC, Pb-Free; Manufacturer: Linear Technology; PartNumber: LT1585CM-3.3#PBF; Discrete Pass Element: no; Dropout Voltage(V): 1.2; Iout(mA): 4600; Isupply(mA): 8; Number of Outputs: 1; Output Voltage: 3.3 V; Vin Max(V): 7; Vin Min(V): 2.35; DatasheetVersion: Rev. A; PackageVersion: Rev. F, 05/2012; PackageReference: M-3; PackageDescription: 3-Pin Plastic DD Pak, Body 10.2235 x 8.89 mm, Pitch 2.54 mm; Supplier 1: Digi-Key; Supplier Part Number 1: LT1585CM-3.3#PBF-ND; Supplier 2: Farnell; Supplier Part Number 2: 1273602; Supplier 3: Newark; Supplier Part Number 3: 57M5115; RoHS: TRUE; Mounting Technology: Surface Mount; ComponentLink1Description: Manufacturer URL; ComponentLink1URL: http://www.linear.com/; ComponentLink2Description: Datasheet; ComponentLink2URL: http://cds.linear.com/docs/en/datasheet/158457a.pdf; ComponentLink3Description: Package Specification; ComponentLink3URL: http://cds.linear.com/docs/en/packaging/05081460_F_M.pdf
footprint LT-M-3_N (DPAK, 3-Leads, Body 10.55x9.4mm, Pitch 2.54mm, IPC Medium Density)
footprint LT-M-3_L (DPAK, 3-Leads, Body 10.55x9.4mm, Pitch 2.54mm, IPC High Density)
footprint LT-M-3_M (DPAK, 3-Leads, Body 10.55x9.4mm, Pitch 2.54mm, IPC Low Density)
pins: 1 GND (power), 2 VOUT (power), 3 VIN (power), 4 OUT (power)

## LT1585CM-3.3#TR
designator U?
4.6 A Low Dropout Fast Response Positive Regulator, 2.35 to 7 V Vin, 3.3 V Vout, 3-pin DPAK (M-3), 0 to 150 degC, Tape and Reel; Manufacturer: Linear Technology; PartNumber: LT1585CM-3.3#TR; Discrete Pass Element: no; Dropout Voltage(V): 1.2; Iout(mA): 4600; Isupply(mA): 8; Number of Outputs: 1; Output Voltage: 3.3 V; Vin Max(V): 7; Vin Min(V): 2.35; DatasheetVersion: Rev. A; PackageVersion: Rev. F, 05/2012; PackageReference: M-3; PackageDescription: 3-Pin Plastic DD Pak, Body 10.2235 x 8.89 mm, Pitch 2.54 mm; Supplier 1: Digi-Key; Supplier Part Number 1: LT1585CM-3.3#TR-ND; Supplier 2: Newark; Supplier Part Number 2: 57M5116; Packing: Tape and Reel; RoHS: FALSE; Mounting Technology: Surface Mount; ComponentLink1Description: Manufacturer URL; ComponentLink1URL: http://www.linear.com/; ComponentLink2Description: Datasheet; ComponentLink2URL: http://cds.linear.com/docs/en/datasheet/158457a.pdf; ComponentLink3Description: Package Specification; ComponentLink3URL: http://cds.linear.com/docs/en/packaging/05081460_F_M.pdf
footprint LT-M-3_N (DPAK, 3-Leads, Body 10.55x9.4mm, Pitch 2.54mm, IPC Medium Density)
footprint LT-M-3_L (DPAK, 3-Leads, Body 10.55x9.4mm, Pitch 2.54mm, IPC High Density)
footprint LT-M-3_M (DPAK, 3-Leads, Body 10.55x9.4mm, Pitch 2.54mm, IPC Low Density)
pins: 1 GND (power), 2 VOUT (power), 3 VIN (power), 4 OUT (power)

## LT1585CM-3.3#TRPBF
designator U?
4.6 A Low Dropout Fast Response Positive Regulator, 2.35 to 7 V Vin, 3.3 V Vout, 3-pin DPAK (M-3), 0 to 150 degC, Pb-Free, Tape and Reel; Manufacturer: Linear Technology; PartNumber: LT1585CM-3.3#TRPBF; Discrete Pass Element: no; Dropout Voltage(V): 1.2; Iout(mA): 4600; Isupply(mA): 8; Number of Outputs: 1; Output Voltage: 3.3 V; Vin Max(V): 7; Vin Min(V): 2.35; DatasheetVersion: Rev. A; PackageVersion: Rev. F, 05/2012; PackageReference: M-3; PackageDescription: 3-Pin Plastic DD Pak, Body 10.2235 x 8.89 mm, Pitch 2.54 mm; Supplier 1: Digi-Key; Supplier Part Number 1: LT1585CM-3.3#TRPBF-ND; Supplier 2: Newark; Supplier Part Number 2: 57M5117; Packing: Tape and Reel; RoHS: TRUE; Mounting Technology: Surface Mount; ComponentLink1Description: Manufacturer URL; ComponentLink1URL: http://www.linear.com/; ComponentLink2Description: Datasheet; ComponentLink2URL: http://cds.linear.com/docs/en/datasheet/158457a.pdf; ComponentLink3Description: Package Specification; ComponentLink3URL: http://cds.linear.com/docs/en/packaging/05081460_F_M.pdf
footprint LT-M-3_N (DPAK, 3-Leads, Body 10.55x9.4mm, Pitch 2.54mm, IPC Medium Density)
footprint LT-M-3_L (DPAK, 3-Leads, Body 10.55x9.4mm, Pitch 2.54mm, IPC High Density)
footprint LT-M-3_M (DPAK, 3-Leads, Body 10.55x9.4mm, Pitch 2.54mm, IPC Low Density)
pins: 1 GND (power), 2 VOUT (power), 3 VIN (power), 4 OUT (power)

## LT1585CM-3.6
designator U?
4.6 A Low Dropout Fast Response Positive Regulator, 2.35 to 7 V Vin, 3.6 V Vout, 3-pin DPAK (M-3), 0 to 150 degC; Manufacturer: Linear Technology; PartNumber: LT1585CM-3.6; Discrete Pass Element: no; Dropout Voltage(V): 1.2; Iout(mA): 4600; Isupply(mA): 8; Number of Outputs: 1; Output Voltage: 3.6 V; Vin Max(V): 7; Vin Min(V): 2.35; DatasheetVersion: Rev. A; PackageVersion: Rev. F, 05/2012; PackageReference: M-3; PackageDescription: 3-Pin Plastic DD Pak, Body 10.2235 x 8.89 mm, Pitch 2.54 mm; Supplier 1: Digi-Key; Supplier Part Number 1: LT1585CM-3.6-ND; RoHS: FALSE; Mounting Technology: Surface Mount; ComponentLink1Description: Manufacturer URL; ComponentLink1URL: http://www.linear.com/; ComponentLink2Description: Datasheet; ComponentLink2URL: http://cds.linear.com/docs/en/datasheet/158457a.pdf; ComponentLink3Description: Package Specification; ComponentLink3URL: http://cds.linear.com/docs/en/packaging/05081460_F_M.pdf
footprint LT-M-3_N (DPAK, 3-Leads, Body 10.55x9.4mm, Pitch 2.54mm, IPC Medium Density)
footprint LT-M-3_L (DPAK, 3-Leads, Body 10.55x9.4mm, Pitch 2.54mm, IPC High Density)
footprint LT-M-3_M (DPAK, 3-Leads, Body 10.55x9.4mm, Pitch 2.54mm, IPC Low Density)
pins: 1 GND (power), 2 VOUT (power), 3 VIN (power), 4 OUT (power)

## LT1585CM-3.6#PBF
designator U?
4.6 A Low Dropout Fast Response Positive Regulator, 2.35 to 7 V Vin, 3.6 V Vout, 3-pin DPAK (M-3), 0 to 150 degC, Pb-Free; Manufacturer: Linear Technology; PartNumber: LT1585CM-3.6#PBF; Discrete Pass Element: no; Dropout Voltage(V): 1.2; Iout(mA): 4600; Isupply(mA): 8; Number of Outputs: 1; Output Voltage: 3.6 V; Vin Max(V): 7; Vin Min(V): 2.35; DatasheetVersion: Rev. A; PackageVersion: Rev. F, 05/2012; PackageReference: M-3; PackageDescription: 3-Pin Plastic DD Pak, Body 10.2235 x 8.89 mm, Pitch 2.54 mm; RoHS: TRUE; Mounting Technology: Surface Mount; ComponentLink1Description: Manufacturer URL; ComponentLink1URL: http://www.linear.com/; ComponentLink2Description: Datasheet; ComponentLink2URL: http://cds.linear.com/docs/en/datasheet/158457a.pdf; ComponentLink3Description: Package Specification; ComponentLink3URL: http://cds.linear.com/docs/en/packaging/05081460_F_M.pdf
footprint LT-M-3_N (DPAK, 3-Leads, Body 10.55x9.4mm, Pitch 2.54mm, IPC Medium Density)
footprint LT-M-3_L (DPAK, 3-Leads, Body 10.55x9.4mm, Pitch 2.54mm, IPC High Density)
footprint LT-M-3_M (DPAK, 3-Leads, Body 10.55x9.4mm, Pitch 2.54mm, IPC Low Density)
pins: 1 GND (power), 2 VOUT (power), 3 VIN (power), 4 OUT (power)

## LT1585CM-3.38
designator U?
4.6 A Low Dropout Fast Response Positive Regulator, 2.35 to 7 V Vin, 3.38 V Vout, 3-pin DPAK (M-3), 0 to 150 degC; Manufacturer: Linear Technology; PartNumber: LT1585CM-3.38; Discrete Pass Element: no; Dropout Voltage(V): 1.2; Iout(mA): 4600; Isupply(mA): 8; Number of Outputs: 1; Output Voltage: 3.38 V; Vin Max(V): 7; Vin Min(V): 2.35; DatasheetVersion: Rev. A; PackageVersion: Rev. F, 05/2012; PackageReference: M-3; PackageDescription: 3-Pin Plastic DD Pak, Body 10.2235 x 8.89 mm, Pitch 2.54 mm; Supplier 1: Digi-Key; Supplier Part Number 1: LT1585CM-3.38-ND; RoHS: FALSE; Mounting Technology: Surface Mount; ComponentLink1Description: Manufacturer URL; ComponentLink1URL: http://www.linear.com/; ComponentLink2Description: Datasheet; ComponentLink2URL: http://cds.linear.com/docs/en/datasheet/158457a.pdf; ComponentLink3Description: Package Specification; ComponentLink3URL: http://cds.linear.com/docs/en/packaging/05081460_F_M.pdf
footprint LT-M-3_N (DPAK, 3-Leads, Body 10.55x9.4mm, Pitch 2.54mm, IPC Medium Density)
footprint LT-M-3_L (DPAK, 3-Leads, Body 10.55x9.4mm, Pitch 2.54mm, IPC High Density)
footprint LT-M-3_M (DPAK, 3-Leads, Body 10.55x9.4mm, Pitch 2.54mm, IPC Low Density)
pins: 1 GND (power), 2 VOUT (power), 3 VIN (power), 4 OUT (power)

## LT1585CM-3.38#PBF
designator U?
4.6 A Low Dropout Fast Response Positive Regulator, 2.35 to 7 V Vin, 3.38 V Vout, 3-pin DPAK (M-3), 0 to 150 degC, Pb-Free; Manufacturer: Linear Technology; PartNumber: LT1585CM-3.38#PBF; Discrete Pass Element: no; Dropout Voltage(V): 1.2; Iout(mA): 4600; Isupply(mA): 8; Number of Outputs: 1; Output Voltage: 3.38 V; Vin Max(V): 7; Vin Min(V): 2.35; DatasheetVersion: Rev. A; PackageVersion: Rev. F, 05/2012; PackageReference: M-3; PackageDescription: 3-Pin Plastic DD Pak, Body 10.2235 x 8.89 mm, Pitch 2.54 mm; Supplier 1: Digi-Key; Supplier Part Number 1: LT1585CM-3.38#PBF-ND; RoHS: TRUE; Mounting Technology: Surface Mount; ComponentLink1Description: Manufacturer URL; ComponentLink1URL: http://www.linear.com/; ComponentLink2Description: Datasheet; ComponentLink2URL: http://cds.linear.com/docs/en/datasheet/158457a.pdf; ComponentLink3Description: Package Specification; ComponentLink3URL: http://cds.linear.com/docs/en/packaging/05081460_F_M.pdf
footprint LT-M-3_N (DPAK, 3-Leads, Body 10.55x9.4mm, Pitch 2.54mm, IPC Medium Density)
footprint LT-M-3_L (DPAK, 3-Leads, Body 10.55x9.4mm, Pitch 2.54mm, IPC High Density)
footprint LT-M-3_M (DPAK, 3-Leads, Body 10.55x9.4mm, Pitch 2.54mm, IPC Low Density)
pins: 1 GND (power), 2 VOUT (power), 3 VIN (power), 4 OUT (power)

## LT1585CM-3.45
designator U?
4.6 A Low Dropout Fast Response Positive Regulator, 2.35 to 7 V Vin, 3.45 V Vout, 3-pin DPAK (M-3), 0 to 150 degC; Manufacturer: Linear Technology; PartNumber: LT1585CM-3.45; Discrete Pass Element: no; Dropout Voltage(V): 1.2; Iout(mA): 4600; Isupply(mA): 8; Number of Outputs: 1; Output Voltage: 3.45 V; Vin Max(V): 7; Vin Min(V): 2.35; DatasheetVersion: Rev. A; PackageVersion: Rev. F, 05/2012; PackageReference: M-3; PackageDescription: 3-Pin Plastic DD Pak, Body 10.2235 x 8.89 mm, Pitch 2.54 mm; Supplier 1: Digi-Key; Supplier Part Number 1: LT1585CM-3.45-ND; RoHS: FALSE; Mounting Technology: Surface Mount; ComponentLink1Description: Manufacturer URL; ComponentLink1URL: http://www.linear.com/; ComponentLink2Description: Datasheet; ComponentLink2URL: http://cds.linear.com/docs/en/datasheet/158457a.pdf; ComponentLink3Description: Package Specification; ComponentLink3URL: http://cds.linear.com/docs/en/packaging/05081460_F_M.pdf
footprint LT-M-3_N (DPAK, 3-Leads, Body 10.55x9.4mm, Pitch 2.54mm, IPC Medium Density)
footprint LT-M-3_L (DPAK, 3-Leads, Body 10.55x9.4mm, Pitch 2.54mm, IPC High Density)
footprint LT-M-3_M (DPAK, 3-Leads, Body 10.55x9.4mm, Pitch 2.54mm, IPC Low Density)
pins: 1 GND (power), 2 VOUT (power), 3 VIN (power), 4 OUT (power)

## LT1585CM-3.45#PBF
designator U?
4.6 A Low Dropout Fast Response Positive Regulator, 2.35 to 7 V Vin, 3.45 V Vout, 3-pin DPAK (M-3), 0 to 150 degC, Pb-Free; Manufacturer: Linear Technology; PartNumber: LT1585CM-3.45#PBF; Discrete Pass Element: no; Dropout Voltage(V): 1.2; Iout(mA): 4600; Isupply(mA): 8; Number of Outputs: 1; Output Voltage: 3.45 V; Vin Max(V): 7; Vin Min(V): 2.35; DatasheetVersion: Rev. A; PackageVersion: Rev. F, 05/2012; PackageReference: M-3; PackageDescription: 3-Pin Plastic DD Pak, Body 10.2235 x 8.89 mm, Pitch 2.54 mm; Supplier 1: Digi-Key; Supplier Part Number 1: LT1585CM-3.45#PBF-ND; RoHS: TRUE; Mounting Technology: Surface Mount; ComponentLink1Description: Manufacturer URL; ComponentLink1URL: http://www.linear.com/; ComponentLink2Description: Datasheet; ComponentLink2URL: http://cds.linear.com/docs/en/datasheet/158457a.pdf; ComponentLink3Description: Package Specification; ComponentLink3URL: http://cds.linear.com/docs/en/packaging/05081460_F_M.pdf
footprint LT-M-3_N (DPAK, 3-Leads, Body 10.55x9.4mm, Pitch 2.54mm, IPC Medium Density)
footprint LT-M-3_L (DPAK, 3-Leads, Body 10.55x9.4mm, Pitch 2.54mm, IPC High Density)
footprint LT-M-3_M (DPAK, 3-Leads, Body 10.55x9.4mm, Pitch 2.54mm, IPC Low Density)
pins: 1 GND (power), 2 VOUT (power), 3 VIN (power), 4 OUT (power)

## LT1585CM-3.45#TR
designator U?
4.6 A Low Dropout Fast Response Positive Regulator, 2.35 to 7 V Vin, 3.45 V Vout, 3-pin DPAK (M-3), 0 to 150 degC, Tape and Reel; Manufacturer: Linear Technology; PartNumber: LT1585CM-3.45#TR; Discrete Pass Element: no; Dropout Voltage(V): 1.2; Iout(mA): 4600; Isupply(mA): 8; Number of Outputs: 1; Output Voltage: 3.45 V; Vin Max(V): 7; Vin Min(V): 2.35; DatasheetVersion: Rev. A; PackageVersion: Rev. F, 05/2012; PackageReference: M-3; PackageDescription: 3-Pin Plastic DD Pak, Body 10.2235 x 8.89 mm, Pitch 2.54 mm; Supplier 1: Digi-Key; Supplier Part Number 1: LT1585CM-3.45#TR-ND; Packing: Tape and Reel; RoHS: FALSE; Mounting Technology: Surface Mount; ComponentLink1Description: Manufacturer URL; ComponentLink1URL: http://www.linear.com/; ComponentLink2Description: Datasheet; ComponentLink2URL: http://cds.linear.com/docs/en/datasheet/158457a.pdf; ComponentLink3Description: Package Specification; ComponentLink3URL: http://cds.linear.com/docs/en/packaging/05081460_F_M.pdf
footprint LT-M-3_N (DPAK, 3-Leads, Body 10.55x9.4mm, Pitch 2.54mm, IPC Medium Density)
footprint LT-M-3_L (DPAK, 3-Leads, Body 10.55x9.4mm, Pitch 2.54mm, IPC High Density)
footprint LT-M-3_M (DPAK, 3-Leads, Body 10.55x9.4mm, Pitch 2.54mm, IPC Low Density)
pins: 1 GND (power), 2 VOUT (power), 3 VIN (power), 4 OUT (power)

## LT1585CM-3.45#TRPBF
designator U?
4.6 A Low Dropout Fast Response Positive Regulator, 2.35 to 7 V Vin, 3.45 V Vout, 3-pin DPAK (M-3), 0 to 150 degC, Pb-Free, Tape and Reel; Manufacturer: Linear Technology; PartNumber: LT1585CM-3.45#TRPBF; Discrete Pass Element: no; Dropout Voltage(V): 1.2; Iout(mA): 4600; Isupply(mA): 8; Number of Outputs: 1; Output Voltage: 3.45 V; Vin Max(V): 7; Vin Min(V): 2.35; DatasheetVersion: Rev. A; PackageVersion: Rev. F, 05/2012; PackageReference: M-3; PackageDescription: 3-Pin Plastic DD Pak, Body 10.2235 x 8.89 mm, Pitch 2.54 mm; Supplier 1: Digi-Key; Supplier Part Number 1: LT1585CM-3.45#TRPBF-ND; Packing: Tape and Reel; RoHS: TRUE; Mounting Technology: Surface Mount; ComponentLink1Description: Manufacturer URL; ComponentLink1URL: http://www.linear.com/; ComponentLink2Description: Datasheet; ComponentLink2URL: http://cds.linear.com/docs/en/datasheet/158457a.pdf; ComponentLink3Description: Package Specification; ComponentLink3URL: http://cds.linear.com/docs/en/packaging/05081460_F_M.pdf
footprint LT-M-3_N (DPAK, 3-Leads, Body 10.55x9.4mm, Pitch 2.54mm, IPC Medium Density)
footprint LT-M-3_L (DPAK, 3-Leads, Body 10.55x9.4mm, Pitch 2.54mm, IPC High Density)
footprint LT-M-3_M (DPAK, 3-Leads, Body 10.55x9.4mm, Pitch 2.54mm, IPC Low Density)
pins: 1 GND (power), 2 VOUT (power), 3 VIN (power), 4 OUT (power)

## LT1585CT
designator U?
4.6 A Low Dropout Fast Response Positive Regulator, 2.35 to 7 V Vin, Adjustable Vout, 3-pin FM (T-3), 0 to 150 degC; Manufacturer: Linear Technology; PartNumber: LT1585CT; Discrete Pass Element: no; Dropout Voltage(V): 1.2; Iout(mA): 4600; Isupply(mA): 8; Number of Outputs: 1; Output Voltage: Adj; Vin Max(V): 7; Vin Min(V): 2.35; Vout Max(V): 5.5; Vout Min(V): 1.25; DatasheetVersion: Rev. A; PackageVersion: Jun-10; PackageReference: T-3; PackageDescription: 3-Pin Plastic TO-220, Body 10.2235 x 4.3815 mm, Pitch 2.54 mm; Supplier 1: Digi-Key; Supplier Part Number 1: LT1585CT-ND; RoHS: FALSE; Mounting Technology: Through Hole; ComponentLink1Description: Manufacturer URL; ComponentLink1URL: http://www.linear.com/; ComponentLink2Description: Datasheet; ComponentLink2URL: http://cds.linear.com/docs/en/datasheet/158457a.pdf; ComponentLink3Description: Package Specification; ComponentLink3URL: http://cds.linear.com/docs/en/packaging/TO-220_3_05-08-1420.pdf
footprint LT-T-3 (T, 3-Leads, Body 10.55x4.6mm, Pitch 2.54mm)
pins: 1 ADJ (in), 2 VOUT (power), 3 VIN (power)

## LT1585CT#PBF
designator U?
4.6 A Low Dropout Fast Response Positive Regulator, 2.35 to 7 V Vin, Adjustable Vout, 3-pin FM (T-3), 0 to 150 degC, Pb-Free; Manufacturer: Linear Technology; PartNumber: LT1585CT#PBF; Discrete Pass Element: no; Dropout Voltage(V): 1.2; Iout(mA): 4600; Isupply(mA): 8; Number of Outputs: 1; Output Voltage: Adj; Vin Max(V): 7; Vin Min(V): 2.35; Vout Max(V): 5.5; Vout Min(V): 1.25; DatasheetVersion: Rev. A; PackageVersion: Jun-10; PackageReference: T-3; PackageDescription: 3-Pin Plastic TO-220, Body 10.2235 x 4.3815 mm, Pitch 2.54 mm; Supplier 1: Digi-Key; Supplier Part Number 1: LT1585CT#PBF-ND; Supplier 2: Farnell; Supplier Part Number 2: 1273603; Supplier 3: Newark; Supplier Part Number 3: 57M5140; RoHS: TRUE; Mounting Technology: Through Hole; ComponentLink1Description: Manufacturer URL; ComponentLink1URL: http://www.linear.com/; ComponentLink2Description: Datasheet; ComponentLink2URL: http://cds.linear.com/docs/en/datasheet/158457a.pdf; ComponentLink3Description: Package Specification; ComponentLink3URL: http://cds.linear.com/docs/en/packaging/TO-220_3_05-08-1420.pdf
footprint LT-T-3 (T, 3-Leads, Body 10.55x4.6mm, Pitch 2.54mm)
pins: 1 ADJ (in), 2 VOUT (power), 3 VIN (power)